# Altium footprint library BATTERY_HOLDER.PcbLib: 5 footprints
Each footprint in its own frame and in the unit in brackets; x right, y up, seen from the top. Pads: shape width x height; smd on the part's side, far side on the other; paste and mask are expansions set on the pad; w line width, h text height; cw(c..) or ccw(c..) is an arc to the next point about the centre after c.
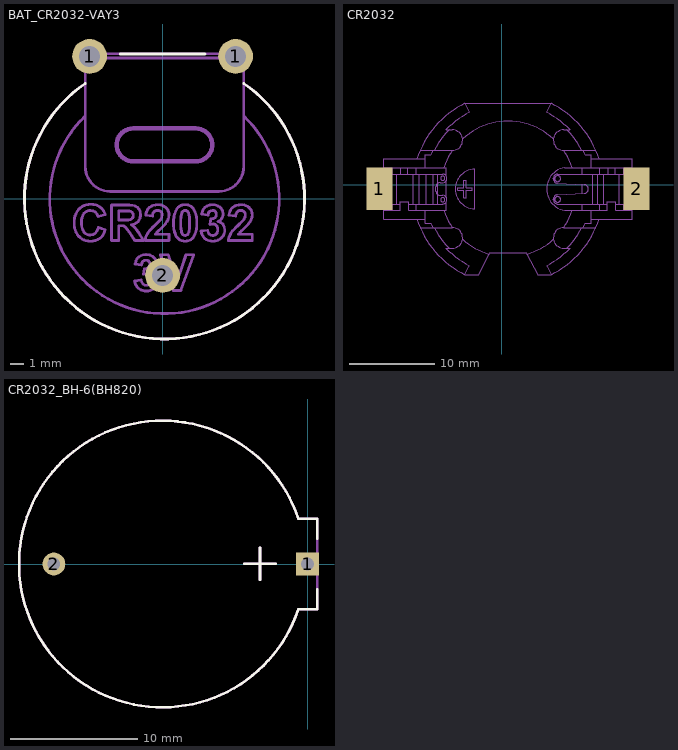
[diagram p0: the footprints below, top view; thin cyan lines are the x and y axes]

## 3x6S_18650 [mm] "Батарея аккумуляторов  3x6S"
height 65
3D body "User Library-li-ion.STEP": height 0.6, standoff -65, extent 72,-36 90,-18
3D body "6S_DETAL_2.STEP": height 65.5, standoff 65, extent 95.5,-53.327 102.5,-5.5
3D body "User Library-li-ion.STEP": height 0.6, standoff -65, extent 72,-54 90,-36
3D body "User Library-li-ion.STEP": height 65.1, standoff -0.5, extent 90,-18 108,0
3D body "6S_DETAL_1.STEP": height 1, standoff 0.5, extent 77.5,-53.327 102.5,-5.5
3D body "User Library-li-ion.STEP": height 0.6, standoff -65, extent 72,-18 90,0
3D body "User Library-li-ion.STEP": height 65.1, standoff -0.5, extent 90,-54 108,-36
3D body "User Library-li-ion.STEP": height 65.1, standoff -0.5, extent 90,-36 108,-18
3D body "User Library-li-ion.STEP": height 65.1, standoff -0.5, extent 54,-18 72,0
3D body "6S_DETAL_1.STEP": height -65.5, standoff -66, extent 59.5,-53.327 84.5,-5.5
3D body "User Library-li-ion.STEP": height 65.1, standoff -0.5, extent 54,-36 72,-18
3D body "User Library-li-ion.STEP": height 65.1, standoff -0.5, extent 54,-54 72,-36
3D body "6S_DETAL_2.STEP": height 65.5, standoff 65, extent 5.5,-53.327 12.5,-5.5
3D body "User Library-li-ion.STEP": height 0.6, standoff -65, extent 36,-18 54,0
3D body "User Library-li-ion.STEP": height 0.6, standoff -65, extent 36,-36 54,-18
3D body "6S_DETAL_1.STEP": height -65.5, standoff -66, extent 23.5,-53.327 48.5,-5.5
3D body "User Library-li-ion.STEP": height 65.1, standoff -0.5, extent 18,-54 36,-36
3D body "User Library-li-ion.STEP": height 65.1, standoff -0.5, extent 18,-36 36,-18
3D body "User Library-li-ion.STEP": height 65.1, standoff -0.5, extent 18,-18 36,0
3D body "User Library-li-ion.STEP": height 0.6, standoff -65, extent 36,-54 54,-36
3D body "6S_DETAL_1.STEP": height -0.5, standoff -1, extent 5.5,-53.327 30.5,-5.5
3D body "User Library-li-ion.STEP": height 0.6, standoff -65, extent 0,-18 18,0
3D body "User Library-li-ion.STEP": height 0.6, standoff -65, extent 0,-36 18,-18
3D body "User Library-li-ion.STEP": height 0.6, standoff -65, extent 0,-54 18,-36
3D body "6S_DETAL_1.STEP": height 1, standoff 0.5, extent 41.5,-53.327 66.5,-5.5

## BAT_CR2032-VAY3 [mm]
pads (3):
  round 2.5 hole 1.5: 1(-5.25,10.25) 1(5.25,10.25) 2(0,-5.5)
Top Overlay:
  lines w0.2: -5.564,8.302 ccw(c0.136,0) 5.836,8.302 ; -3.048,10.414 3.048,10.414
Top Assembly:
  drawing of 258 lines, arcs and shapes, not listed
3D body "User Library-cr2032l.STEP": height 5.4, standoff -3.75, extent -10.07,-10.07 10.07,10.44

## CR2032 [mm]
pads (2):
  rect 3x5 smd: 1(-14.25,-0.5) 2(15.75,-0.5)
Top Assembly:
  drawing of 248 lines, arcs and shapes, not listed
3D body "User Library-BU2032SM-HD-G(CR2032 Battery Holder).step": height 5.38, standoff 0.08, extent -15.247,-10.504 16.753,9.496

## CR2032_BH-6(BH820) [mm] "BATTERY HOLDER"
height 4
pads (2):
  rect 1.8x1.8 hole 1: 1(0,0)
  round 1.8 hole 1: 2(-20,0)
Top Overlay:
  lines w0.2: -5,0.025 -3.75,0.025 ; -3.75,-1.225 -3.75,0.025 ; -3.75,1.275 -3.75,0.025 ; -2.5,0.025 -3.75,0.025 ; -0.738,3.597 ccw(c-11.45,0) -0.73,-3.575 ; -0.722,-3.575 0.75,-3.575 0.75,-2 ; -0.722,3.55 0.75,3.55 0.75,1.975
Top Assembly:
  lines w0.2: -5,0.025 -2.5,0.025 ; -3.75,-1.225 -3.75,1.275 ; -0.738,3.597 ccw(c-11.45,0) -0.73,-3.575 0.75,-3.575 0.75,3.55 -0.722,3.55
3D body "User Library-BH-6_CellHolder.STEP": height 2.45, standoff -8.2, extent -22.75,-11.3 0.75,11.3

## PCBComponent_1 [mm]